# Altium footprint library 12-6vdcdc.PcbLib: 1 footprints
Each footprint in its own frame and in the unit in brackets; x right, y up, seen from the top. Pads: shape width x height; smd on the part's side, far side on the other; paste and mask are expansions set on the pad; w line width, h text height; cw(c..) or ccw(c..) is an arc to the next point about the centre after c.
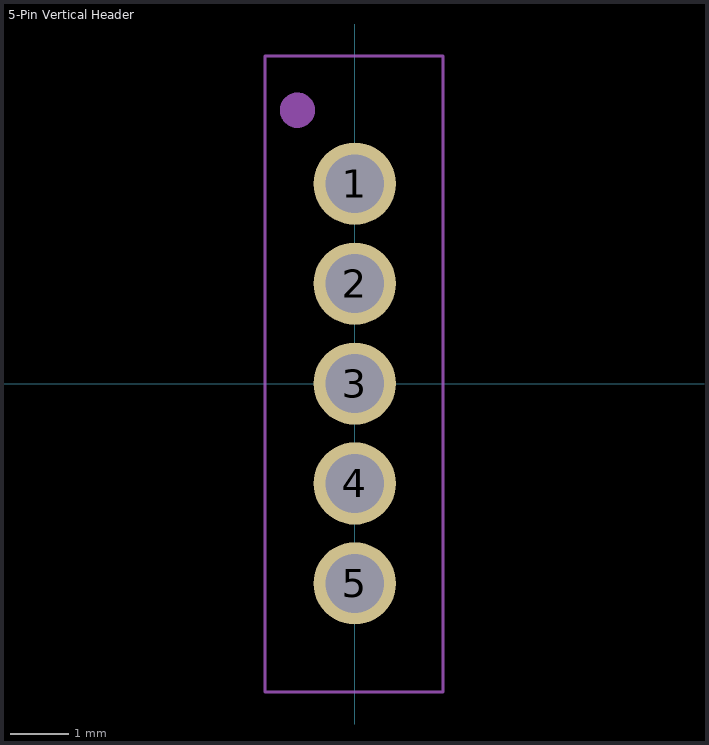
[diagram p0: the footprint, top view; thin cyan lines are the x and y axes]

## 5-Pin Vertical Header [mm]
pads (5):
  round 1.4 hole 1: 1(0,3.4) 2(0,1.7) 3(0,0) 4(0,-1.7) 5(0,-3.4)
Mechanical 8:
  circle w0.3: c-0.975,4.65 r0.15
  lines w0.05: -1.525,-5.25 -1.525,5.575 1.5,5.575 1.5,-5.25 -1.525,-5.25